# Altium schematic symbol library LM2676.SchLib: 1 symbol
Pins are listed as number, name and electrical type; pins without a type are passive.

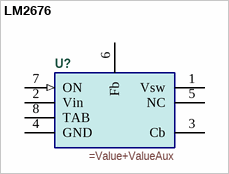
[diagram p0: symbol LM2676]

## LM2676
designator U?
=Description
pins: 1 Vsw (power), 2 Vin (power), 3 Cb, 4 GND (power), 5 NC, 6 Fb, 7 ON (in), 8 TAB (power)